# Altium footprint library AMP Footprints.PcbLib: 903 footprints (part 33 of 58)
Each footprint in its own frame and in the unit in brackets; x right, y up, seen from the top. Pads: shape width x height; smd on the part's side, far side on the other; paste and mask are expansions set on the pad; w line width, h text height; cw(c..) or ccw(c..) is an arc to the next point about the centre after c.
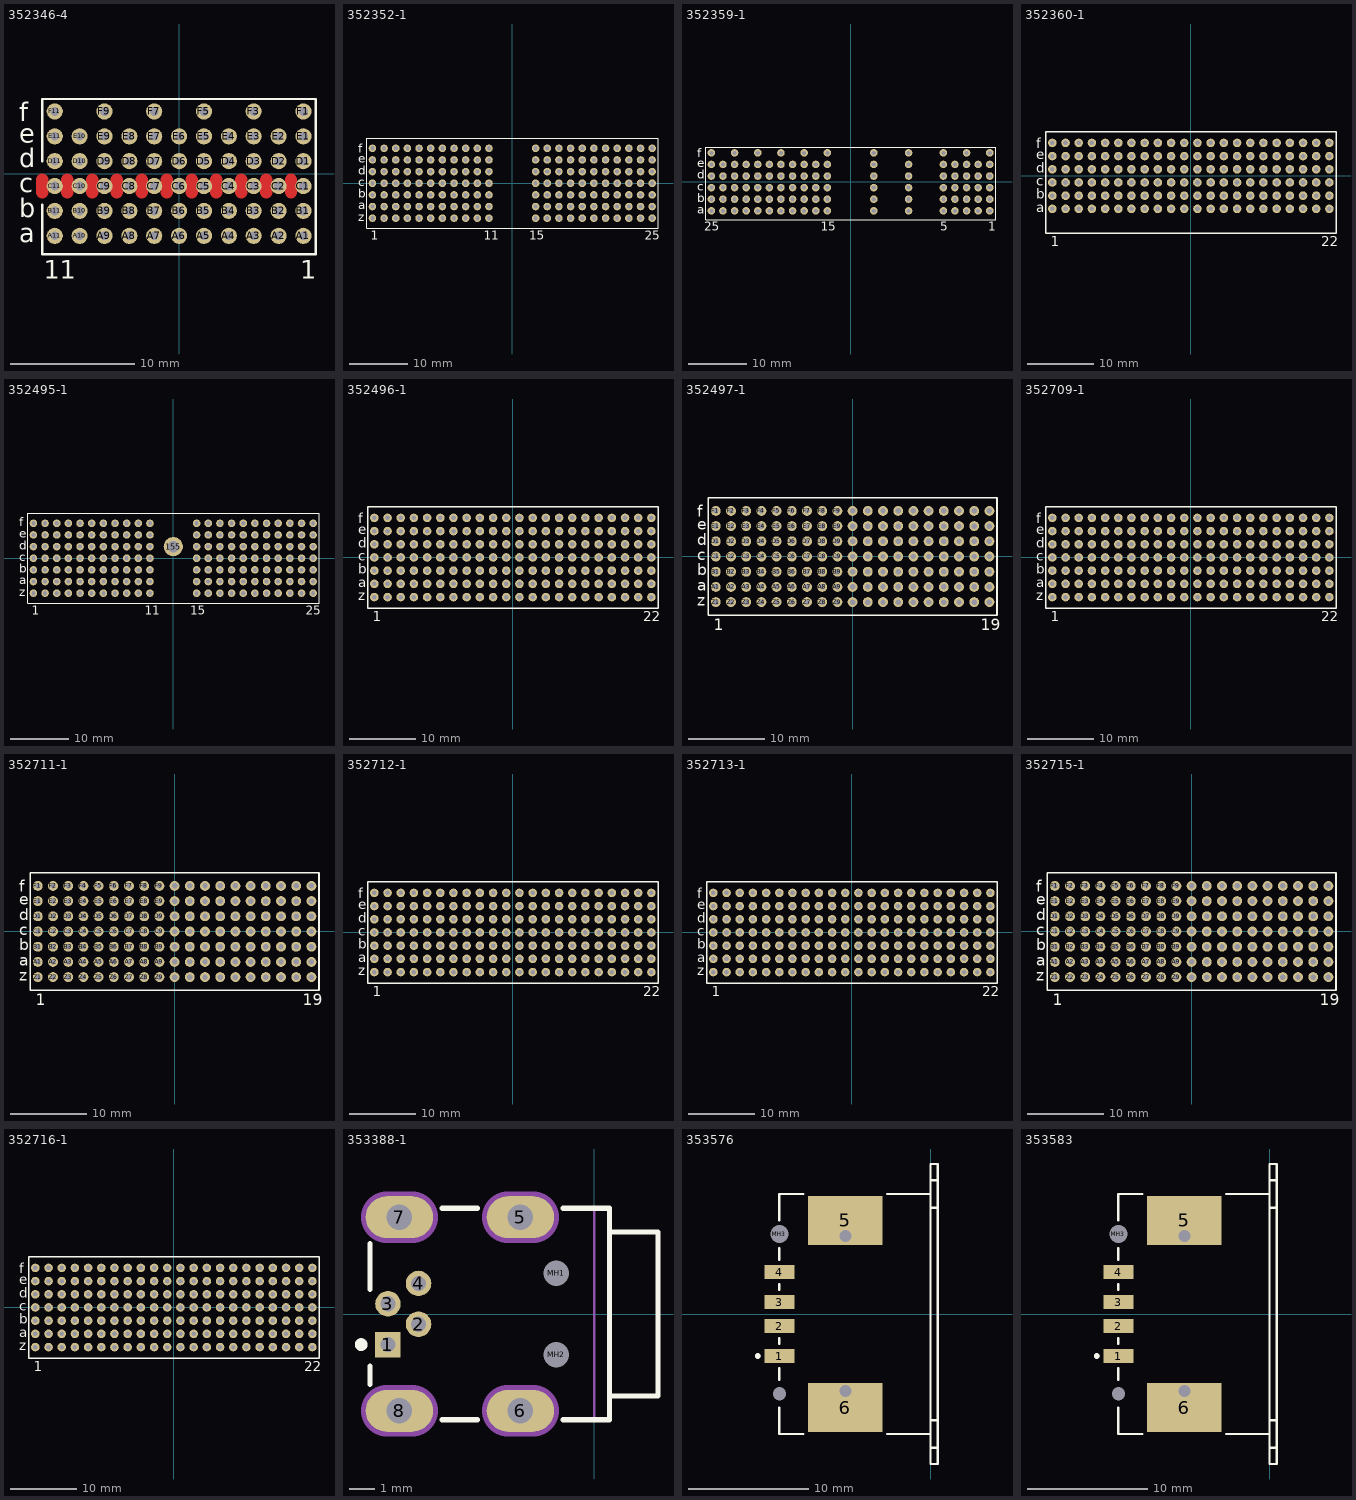
[diagram p32: the footprints below, top view; thin cyan lines are the x and y axes]

## 352346-4 [mm] "Connector; CompactPCI; 55 Position; Right Angle"
height 8.13
pads (61):
  round 1.3 hole 0.7: A1(10,-5) A2(8,-5) A3(6,-5) A4(4,-5) A5(2,-5) A6(0,-5) A7(-2,-5) A8(-4,-5) A9(-6,-5) A10(-8,-5) A11(-10,-5) B1(10,-3) B2(8,-3) B3(6,-3) B4(4,-3) B5(2,-3) B6(0,-3) B7(-2,-3) B8(-4,-3) B9(-6,-3) B10(-8,-3) B11(-10,-3) C1(10,-1) C2(8,-1) C3(6,-1) C4(4,-1) C5(2,-1) C6(0,-1) C7(-2,-1) C8(-4,-1) C9(-6,-1) C10(-8,-1) C11(-10,-1) D1(10,1) D2(8,1) D3(6,1) D4(4,1) D5(2,1) D6(0,1) D7(-2,1) D8(-4,1) D9(-6,1) D10(-8,1) D11(-10,1) E1(10,3) E2(8,3) E3(6,3) E4(4,3) E5(2,3) E6(0,3) E7(-2,3) E8(-4,3) E9(-6,3) E10(-8,3) E11(-10,3) F1(10,5) F3(6,5) F5(2,5) F7(-2,5) F9(-6,5) F11(-10,5)
Top Layer:
  lines w1: -11,-1.5 -11,-0.5 ; -9,-1.5 -9,-0.5 ; -7,-1.5 -7,-0.5 ; -5,-1.5 -5,-0.5 ; -3,-1.5 -3,-0.5 ; -1,-1.5 -1,-0.5 ; 1,-1.5 1,-0.5 ; 3,-1.5 3,-0.5 ; 5,-1.5 5,-0.5 ; 7,-1.5 7,-0.5 ; 9,-1.5 9,-0.5
Top Overlay:
  lines w0.2: -11,-2.5 -11,-6.5 11,-6.5 11,6 -11,6 -11,1
  text "1" at 9.75,-8.475 h1.5
  text "11" at -10.875,-8.475 h1.5
  text "f" at -12.875,4.225 h1.5
  text "e" at -12.875,2.5 h1.5
  text "d" at -12.875,0.5 h1.5
  text "c" at -12.875,-1.5 h1.5
  text "b" at -12.875,-3.5 h1.5
  text "a" at -12.875,-5.5 h1.5

## 352352-1 [mm] "Connector; CompactPCI; 100 Position; Vertical"
height 13.45
pads (154):
  round 1.3 hole 0.7: A1(-24,-4) A2(-22,-4) A3(-20,-4) A4(-18,-4) A5(-16,-4) A6(-14,-4) A7(-12,-4) A8(-10,-4) A9(-8,-4) A10(-6,-4) A11(-4,-4) A15(4,-4) A16(6,-4) A17(8,-4) A18(10,-4) A19(12,-4) A20(14,-4) A21(16,-4) A22(18,-4) A23(20,-4) A24(22,-4) A25(24,-4) B1(-24,-2) B2(-22,-2) B3(-20,-2) B4(-18,-2) B5(-16,-2) B6(-14,-2) B7(-12,-2) B8(-10,-2) B9(-8,-2) B10(-6,-2) B11(-4,-2) B15(4,-2) B16(6,-2) B17(8,-2) B18(10,-2) B19(12,-2) B20(14,-2) B21(16,-2) B22(18,-2) B23(20,-2) B24(22,-2) B25(24,-2) C1(-24,0) C2(-22,0) C3(-20,0) C4(-18,0) C5(-16,0) C6(-14,0) C7(-12,0) C8(-10,0) C9(-8,0) C10(-6,0) C11(-4,0) C15(4,0) C16(6,0) C17(8,0) C18(10,0) C19(12,0) C20(14,0) C21(16,0) C22(18,0) C23(20,0) C24(22,0) C25(24,0) D1(-24,2) D2(-22,2) D3(-20,2) D4(-18,2) D5(-16,2) D6(-14,2) D7(-12,2) D8(-10,2) D9(-8,2) D10(-6,2) D11(-4,2) D15(4,2) D16(6,2) D17(8,2) D18(10,2) D19(12,2) D20(14,2) D21(16,2) D22(18,2) D23(20,2) D24(22,2) D25(24,2) E1(-24,4) E2(-22,4) E3(-20,4) E4(-18,4) E5(-16,4) E6(-14,4) E7(-12,4) E8(-10,4) E9(-8,4) E10(-6,4) E11(-4,4) E15(4,4) E16(6,4) E17(8,4) E18(10,4) E19(12,4) E20(14,4) E21(16,4) E22(18,4) E23(20,4) E24(22,4) E25(24,4) F1(-24,6) F2(-22,6) F3(-20,6) F4(-18,6) F5(-16,6) F6(-14,6) F7(-12,6) F8(-10,6) F9(-8,6) F10(-6,6) F11(-4,6) F15(4,6) F16(6,6) F17(8,6) F18(10,6) F19(12,6) F20(14,6) F21(16,6) F22(18,6) F23(20,6) F24(22,6) F25(24,6) Z1(-24,-6) Z2(-22,-6) Z3(-20,-6) Z4(-18,-6) Z5(-16,-6) Z6(-14,-6) Z7(-12,-6) Z8(-10,-6) Z9(-8,-6) Z10(-6,-6) Z11(-4,-6) Z15(4,-6) Z16(6,-6) Z17(8,-6) Z18(10,-6) Z19(12,-6) Z20(14,-6) Z21(16,-6) Z22(18,-6) Z23(20,-6) Z24(22,-6) Z25(24,-6)
Top Overlay:
  lines w0.2: -25,-7.7 25,-7.7 25,7.7 -25,7.7 -25,-7.7
  text "f" at -26.475,5.225 h1.5
  text "e" at -26.475,3.5 h1.5
  text "d" at -26.475,1.5 h1.5
  text "c" at -26.475,-0.5 h1.5
  text "b" at -26.475,-2.5 h1.5
  text "a" at -26.475,-4.5 h1.5
  text "z" at -26.475,-6.5 h1.5
  text "25" at 22.75,-9.675 h1.5
  text "15" at 2.875,-9.675 h1.5
  text "1" at -24.25,-9.675 h1.5
  text "11" at -4.875,-9.675 h1.5

## 352359-1 [mm] "Connector; CompactPCI; 90 Position; Right Angle"
height 8.13
pads (101):
  round 1.3 hole 0.7: A1(24,-5) A2(22,-5) A3(20,-5) A4(18,-5) A5(16,-5) A8(10,-5) A11(4,-5) A15(-4,-5) A16(-6,-5) A17(-8,-5) A18(-10,-5) A19(-12,-5) A20(-14,-5) A21(-16,-5) A22(-18,-5) A23(-20,-5) A24(-22,-5) A25(-24,-5) B1(24,-3) B2(22,-3) B3(20,-3) B4(18,-3) B5(16,-3) B8(10,-3) B11(4,-3) B15(-4,-3) B16(-6,-3) B17(-8,-3) B18(-10,-3) B19(-12,-3) B20(-14,-3) B21(-16,-3) B22(-18,-3) B23(-20,-3) B24(-22,-3) B25(-24,-3) C1(24,-1) C2(22,-1) C3(20,-1) C4(18,-1) C5(16,-1) C8(10,-1) C11(4,-1) C15(-4,-1) C16(-6,-1) C17(-8,-1) C18(-10,-1) C19(-12,-1) C20(-14,-1) C21(-16,-1) C22(-18,-1) C23(-20,-1) C24(-22,-1) C25(-24,-1) D1(24,1) D2(22,1) D3(20,1) D4(18,1) D5(16,1) D8(10,1) D11(4,1) D15(-4,1) D16(-6,1) D17(-8,1) D18(-10,1) D19(-12,1) D20(-14,1) D21(-16,1) D22(-18,1) D23(-20,1) D24(-22,1) D25(-24,1) E1(24,3) E2(22,3) E3(20,3) E4(18,3) E5(16,3) E8(10,3) E11(4,3) E15(-4,3) E16(-6,3) E17(-8,3) E18(-10,3) E19(-12,3) E20(-14,3) E21(-16,3) E22(-18,3) E23(-20,3) E24(-22,3) E25(-24,3) F1(24,5) F3(20,5) F5(16,5) F8(10,5) F11(4,5) F15(-4,5) F17(-8,5) F19(-12,5) F21(-16,5) F23(-20,5) F25(-24,5)
Top Overlay:
  lines w0.2: -25,-6.5 -25,6 25,6 25,-6.5 -25,-6.5
  text "25" at -25.25,-8.475 h1.5
  text "15" at -5.125,-8.475 h1.5
  text "5" at 15.5,-8.475 h1.5
  text "1" at 23.75,-8.475 h1.5
  text "f" at -26.475,4.225 h1.5
  text "e" at -26.475,2.5 h1.5
  text "d" at -26.475,0.5 h1.5
  text "c" at -26.475,-1.5 h1.5
  text "b" at -26.475,-3.5 h1.5
  text "a" at -26.475,-5.5 h1.5

## 352360-1 [mm] "Connector; CompactPCI; 132 Position; Vertical"
height 13.45
pads (132):
  round 1.3 hole 0.7: A1(-21,-5) A2(-19,-5) A3(-17,-5) A4(-15,-5) A5(-13,-5) A6(-11,-5) A7(-9,-5) A8(-7,-5) A9(-5,-5) A10(-3,-5) A11(-1,-5) A12(1,-5) A13(3,-5) A14(5,-5) A15(7,-5) A16(9,-5) A17(11,-5) A18(13,-5) A19(15,-5) A20(17,-5) A21(19,-5) A22(21,-5) B1(-21,-3) B2(-19,-3) B3(-17,-3) B4(-15,-3) B5(-13,-3) B6(-11,-3) B7(-9,-3) B8(-7,-3) B9(-5,-3) B10(-3,-3) B11(-1,-3) B12(1,-3) B13(3,-3) B14(5,-3) B15(7,-3) B16(9,-3) B17(11,-3) B18(13,-3) B19(15,-3) B20(17,-3) B21(19,-3) B22(21,-3) C1(-21,-1) C2(-19,-1) C3(-17,-1) C4(-15,-1) C5(-13,-1) C6(-11,-1) C7(-9,-1) C8(-7,-1) C9(-5,-1) C10(-3,-1) C11(-1,-1) C12(1,-1) C13(3,-1) C14(5,-1) C15(7,-1) C16(9,-1) C17(11,-1) C18(13,-1) C19(15,-1) C20(17,-1) C21(19,-1) C22(21,-1) D1(-21,1) D2(-19,1) D3(-17,1) D4(-15,1) D5(-13,1) D6(-11,1) D7(-9,1) D8(-7,1) D9(-5,1) D10(-3,1) D11(-1,1) D12(1,1) D13(3,1) D14(5,1) D15(7,1) D16(9,1) D17(11,1) D18(13,1) D19(15,1) D20(17,1) D21(19,1) D22(21,1) E1(-21,3) E2(-19,3) E3(-17,3) E4(-15,3) E5(-13,3) E6(-11,3) E7(-9,3) E8(-7,3) E9(-5,3) E10(-3,3) E11(-1,3) E12(1,3) E13(3,3) E14(5,3) E15(7,3) E16(9,3) E17(11,3) E18(13,3) E19(15,3) E20(17,3) E21(19,3) E22(21,3) F1(-21,5) F2(-19,5) F3(-17,5) F4(-15,5) F5(-13,5) F6(-11,5) F7(-9,5) F8(-7,5) F9(-5,5) F10(-3,5) F11(-1,5) F12(1,5) F13(3,5) F14(5,5) F15(7,5) F16(9,5) F17(11,5) F18(13,5) F19(15,5) F20(17,5) F21(19,5) F22(21,5)
Top Overlay:
  lines w0.2: -22,-8.7 22,-8.7 22,6.7 -22,6.7 -22,-8.7
  text "1" at -21.25,-10.675 h1.5
  text "22" at 19.75,-10.675 h1.5
  text "a" at -23.475,-5.5 h1.5
  text "b" at -23.475,-3.5 h1.5
  text "c" at -23.475,-1.5 h1.5
  text "d" at -23.475,0.5 h1.5
  text "e" at -23.475,2.5 h1.5
  text "f" at -23.475,4.225 h1.5

## 352495-1 [mm] "Connector; CompactPCI; 154 Position; Vertical"
height 13.45
pads (155):
  round 3.3 hole 2: 155(0,2)
  round 1.3 hole 0.7: A1(-24,-4) A2(-22,-4) A3(-20,-4) A4(-18,-4) A5(-16,-4) A6(-14,-4) A7(-12,-4) A8(-10,-4) A9(-8,-4) A10(-6,-4) A11(-4,-4) A15(4,-4) A16(6,-4) A17(8,-4) A18(10,-4) A19(12,-4) A20(14,-4) A21(16,-4) A22(18,-4) A23(20,-4) A24(22,-4) A25(24,-4) B1(-24,-2) B2(-22,-2) B3(-20,-2) B4(-18,-2) B5(-16,-2) B6(-14,-2) B7(-12,-2) B8(-10,-2) B9(-8,-2) B10(-6,-2) B11(-4,-2) B15(4,-2) B16(6,-2) B17(8,-2) B18(10,-2) B19(12,-2) B20(14,-2) B21(16,-2) B22(18,-2) B23(20,-2) B24(22,-2) B25(24,-2) C1(-24,0) C2(-22,0) C3(-20,0) C4(-18,0) C5(-16,0) C6(-14,0) C7(-12,0) C8(-10,0) C9(-8,0) C10(-6,0) C11(-4,0) C15(4,0) C16(6,0) C17(8,0) C18(10,0) C19(12,0) C20(14,0) C21(16,0) C22(18,0) C23(20,0) C24(22,0) C25(24,0) D1(-24,2) D2(-22,2) D3(-20,2) D4(-18,2) D5(-16,2) D6(-14,2) D7(-12,2) D8(-10,2) D9(-8,2) D10(-6,2) D11(-4,2) D15(4,2) D16(6,2) D17(8,2) D18(10,2) D19(12,2) D20(14,2) D21(16,2) D22(18,2) D23(20,2) D24(22,2) D25(24,2) E1(-24,4) E2(-22,4) E3(-20,4) E4(-18,4) E5(-16,4) E6(-14,4) E7(-12,4) E8(-10,4) E9(-8,4) E10(-6,4) E11(-4,4) E15(4,4) E16(6,4) E17(8,4) E18(10,4) E19(12,4) E20(14,4) E21(16,4) E22(18,4) E23(20,4) E24(22,4) E25(24,4) F1(-24,6) F2(-22,6) F3(-20,6) F4(-18,6) F5(-16,6) F6(-14,6) F7(-12,6) F8(-10,6) F9(-8,6) F10(-6,6) F11(-4,6) F15(4,6) F16(6,6) F17(8,6) F18(10,6) F19(12,6) F20(14,6) F21(16,6) F22(18,6) F23(20,6) F24(22,6) F25(24,6) Z1(-24,-6) Z2(-22,-6) Z3(-20,-6) Z4(-18,-6) Z5(-16,-6) Z6(-14,-6) Z7(-12,-6) Z8(-10,-6) Z9(-8,-6) Z10(-6,-6) Z11(-4,-6) Z15(4,-6) Z16(6,-6) Z17(8,-6) Z18(10,-6) Z19(12,-6) Z20(14,-6) Z21(16,-6) Z22(18,-6) Z23(20,-6) Z24(22,-6) Z25(24,-6)
Top Overlay:
  lines w0.2: -25,-7.7 -25,7.7 25,7.7 25,-7.7 -25,-7.7
  text "f" at -26.475,5.475 h1.5
  text "e" at -26.475,3.5 h1.5
  text "d" at -26.475,1.5 h1.5
  text "c" at -26.475,-0.5 h1.5
  text "b" at -26.475,-2.5 h1.5
  text "a" at -26.475,-4.5 h1.5
  text "z" at -26.475,-6.5 h1.5
  text "25" at 22.75,-9.675 h1.5
  text "15" at 2.875,-9.675 h1.5
  text "11" at -4.875,-9.675 h1.5
  text "1" at -24.25,-9.675 h1.5

## 352496-1 [mm] "Connector; CompactPCI; 154 Position; Vertical"
height 13.45
pads (154):
  round 1.3 hole 0.7: A1(-21,-4) A2(-19,-4) A3(-17,-4) A4(-15,-4) A5(-13,-4) A6(-11,-4) A7(-9,-4) A8(-7,-4) A9(-5,-4) A10(-3,-4) A11(-1,-4) A12(1,-4) A13(3,-4) A14(5,-4) A15(7,-4) A16(9,-4) A17(11,-4) A18(13,-4) A19(15,-4) A20(17,-4) A21(19,-4) A22(21,-4) B1(-21,-2) B2(-19,-2) B3(-17,-2) B4(-15,-2) B5(-13,-2) B6(-11,-2) B7(-9,-2) B8(-7,-2) B9(-5,-2) B10(-3,-2) B11(-1,-2) B12(1,-2) B13(3,-2) B14(5,-2) B15(7,-2) B16(9,-2) B17(11,-2) B18(13,-2) B19(15,-2) B20(17,-2) B21(19,-2) B22(21,-2) C1(-21,0) C2(-19,0) C3(-17,0) C4(-15,0) C5(-13,0) C6(-11,0) C7(-9,0) C8(-7,0) C9(-5,0) C10(-3,0) C11(-1,0) C12(1,0) C13(3,0) C14(5,0) C15(7,0) C16(9,0) C17(11,0) C18(13,0) C19(15,0) C20(17,0) C21(19,0) C22(21,0) D1(-21,2) D2(-19,2) D3(-17,2) D4(-15,2) D5(-13,2) D6(-11,2) D7(-9,2) D8(-7,2) D9(-5,2) D10(-3,2) D11(-1,2) D12(1,2) D13(3,2) D14(5,2) D15(7,2) D16(9,2) D17(11,2) D18(13,2) D19(15,2) D20(17,2) D21(19,2) D22(21,2) E1(-21,4) E2(-19,4) E3(-17,4) E4(-15,4) E5(-13,4) E6(-11,4) E7(-9,4) E8(-7,4) E9(-5,4) E10(-3,4) E11(-1,4) E12(1,4) E13(3,4) E14(5,4) E15(7,4) E16(9,4) E17(11,4) E18(13,4) E19(15,4) E20(17,4) E21(19,4) E22(21,4) F1(-21,6) F2(-19,6) F3(-17,6) F4(-15,6) F5(-13,6) F6(-11,6) F7(-9,6) F8(-7,6) F9(-5,6) F10(-3,6) F11(-1,6) F12(1,6) F13(3,6) F14(5,6) F15(7,6) F16(9,6) F17(11,6) F18(13,6) F19(15,6) F20(17,6) F21(19,6) F22(21,6) Z1(-21,-6) Z2(-19,-6) Z3(-17,-6) Z4(-15,-6) Z5(-13,-6) Z6(-11,-6) Z7(-9,-6) Z8(-7,-6) Z9(-5,-6) Z10(-3,-6) Z11(-1,-6) Z12(1,-6) Z13(3,-6) Z14(5,-6) Z15(7,-6) Z16(9,-6) Z17(11,-6) Z18(13,-6) Z19(15,-6) Z20(17,-6) Z21(19,-6) Z22(21,-6)
Top Overlay:
  lines w0.2: -22,-7.7 -22,7.7 22,7.7 22,-7.7 -22,-7.7
  text "f" at -23.475,5.225 h1.5
  text "e" at -23.475,3.5 h1.5
  text "d" at -23.475,1.5 h1.5
  text "c" at -23.475,-0.5 h1.5
  text "b" at -23.475,-2.5 h1.5
  text "a" at -23.475,-4.5 h1.5
  text "z" at -23.475,-6.5 h1.5
  text "22" at 19.75,-9.675 h1.5
  text "1" at -21.25,-9.675 h1.5

## 352497-1 [mm] "Connector; CompactPCI; 133 Position; Vertical"
height 13.45
pads (133):
  round 1.3 hole 0.7: A1(-18,-4) A2(-16,-4) A3(-14,-4) A4(-12,-4) A5(-10,-4) A6(-8,-4) A7(-6,-4) A8(-4,-4) A9(-2,-4) A10(0,-4) A11(2,-4) A12(4,-4) A13(6,-4) A14(8,-4) A15(10,-4) A16(12,-4) A17(14,-4) A18(16,-4) A19(18,-4) B1(-18,-2) B2(-16,-2) B3(-14,-2) B4(-12,-2) B5(-10,-2) B6(-8,-2) B7(-6,-2) B8(-4,-2) B9(-2,-2) B10(0,-2) B11(2,-2) B12(4,-2) B13(6,-2) B14(8,-2) B15(10,-2) B16(12,-2) B17(14,-2) B18(16,-2) B19(18,-2) C1(-18,0) C2(-16,0) C3(-14,0) C4(-12,0) C5(-10,0) C6(-8,0) C7(-6,0) C8(-4,0) C9(-2,0) C10(0,0) C11(2,0) C12(4,0) C13(6,0) C14(8,0) C15(10,0) C16(12,0) C17(14,0) C18(16,0) C19(18,0) D1(-18,2) D2(-16,2) D3(-14,2) D4(-12,2) D5(-10,2) D6(-8,2) D7(-6,2) D8(-4,2) D9(-2,2) D10(0,2) D11(2,2) D12(4,2) D13(6,2) D14(8,2) D15(10,2) D16(12,2) D17(14,2) D18(16,2) D19(18,2) E1(-18,4) E2(-16,4) E3(-14,4) E4(-12,4) E5(-10,4) E6(-8,4) E7(-6,4) E8(-4,4) E9(-2,4) E10(0,4) E11(2,4) E12(4,4) E13(6,4) E14(8,4) E15(10,4) E16(12,4) E17(14,4) E18(16,4) E19(18,4) F1(-18,6) F2(-16,6) F3(-14,6) F4(-12,6) F5(-10,6) F6(-8,6) F7(-6,6) F8(-4,6) F9(-2,6) F10(0,6) F11(2,6) F12(4,6) F13(6,6) F14(8,6) F15(10,6) F16(12,6) F17(14,6) F18(16,6) F19(18,6) Z1(-18,-6) Z2(-16,-6) Z3(-14,-6) Z4(-12,-6) Z5(-10,-6) Z6(-8,-6) Z7(-6,-6) Z8(-4,-6) Z9(-2,-6) Z10(0,-6) Z11(2,-6) Z12(4,-6) Z13(6,-6) Z14(8,-6) Z15(10,-6) Z16(12,-6) Z17(14,-6) Z18(16,-6) Z19(18,-6)
Top Overlay:
  lines w0.2: -19,-7.7 -19,7.7 19,7.7 19,-7.7 -19,-7.7
  text "19" at 16.875,-9.675 h1.5
  text "1" at -18.25,-9.675 h1.5
  text "f" at -20.475,5.225 h1.5
  text "e" at -20.475,3.5 h1.5
  text "d" at -20.475,1.5 h1.5
  text "c" at -20.475,-0.5 h1.5
  text "b" at -20.475,-2.5 h1.5
  text "a" at -20.475,-4.5 h1.5
  text "z" at -20.475,-6.5 h1.5

## 352709-1 [mm] "Connector; CompactPCI; 132 Position; Vertical"
height 13.45
pads (154):
  round 1.3 hole 0.7: A1(-21,-4) A2(-19,-4) A3(-17,-4) A4(-15,-4) A5(-13,-4) A6(-11,-4) A7(-9,-4) A8(-7,-4) A9(-5,-4) A10(-3,-4) A11(-1,-4) A12(1,-4) A13(3,-4) A14(5,-4) A15(7,-4) A16(9,-4) A17(11,-4) A18(13,-4) A19(15,-4) A20(17,-4) A21(19,-4) A22(21,-4) B1(-21,-2) B2(-19,-2) B3(-17,-2) B4(-15,-2) B5(-13,-2) B6(-11,-2) B7(-9,-2) B8(-7,-2) B9(-5,-2) B10(-3,-2) B11(-1,-2) B12(1,-2) B13(3,-2) B14(5,-2) B15(7,-2) B16(9,-2) B17(11,-2) B18(13,-2) B19(15,-2) B20(17,-2) B21(19,-2) B22(21,-2) C1(-21,0) C2(-19,0) C3(-17,0) C4(-15,0) C5(-13,0) C6(-11,0) C7(-9,0) C8(-7,0) C9(-5,0) C10(-3,0) C11(-1,0) C12(1,0) C13(3,0) C14(5,0) C15(7,0) C16(9,0) C17(11,0) C18(13,0) C19(15,0) C20(17,0) C21(19,0) C22(21,0) D1(-21,2) D2(-19,2) D3(-17,2) D4(-15,2) D5(-13,2) D6(-11,2) D7(-9,2) D8(-7,2) D9(-5,2) D10(-3,2) D11(-1,2) D12(1,2) D13(3,2) D14(5,2) D15(7,2) D16(9,2) D17(11,2) D18(13,2) D19(15,2) D20(17,2) D21(19,2) D22(21,2) E1(-21,4) E2(-19,4) E3(-17,4) E4(-15,4) E5(-13,4) E6(-11,4) E7(-9,4) E8(-7,4) E9(-5,4) E10(-3,4) E11(-1,4) E12(1,4) E13(3,4) E14(5,4) E15(7,4) E16(9,4) E17(11,4) E18(13,4) E19(15,4) E20(17,4) E21(19,4) E22(21,4) F1(-21,6) F2(-19,6) F3(-17,6) F4(-15,6) F5(-13,6) F6(-11,6) F7(-9,6) F8(-7,6) F9(-5,6) F10(-3,6) F11(-1,6) F12(1,6) F13(3,6) F14(5,6) F15(7,6) F16(9,6) F17(11,6) F18(13,6) F19(15,6) F20(17,6) F21(19,6) F22(21,6) Z1(-21,-6) Z2(-19,-6) Z3(-17,-6) Z4(-15,-6) Z5(-13,-6) Z6(-11,-6) Z7(-9,-6) Z8(-7,-6) Z9(-5,-6) Z10(-3,-6) Z11(-1,-6) Z12(1,-6) Z13(3,-6) Z14(5,-6) Z15(7,-6) Z16(9,-6) Z17(11,-6) Z18(13,-6) Z19(15,-6) Z20(17,-6) Z21(19,-6) Z22(21,-6)
Top Overlay:
  lines w0.2: -22,-7.7 -22,7.7 22,7.7 22,-7.7 -22,-7.7
  text "f" at -23.475,5.225 h1.5
  text "e" at -23.475,3.5 h1.5
  text "d" at -23.475,1.5 h1.5
  text "c" at -23.475,-0.5 h1.5
  text "b" at -23.475,-2.5 h1.5
  text "a" at -23.475,-4.5 h1.5
  text "z" at -23.475,-6.5 h1.5
  text "22" at 19.75,-9.675 h1.5
  text "1" at -21.25,-9.675 h1.5

## 352711-1 [mm] "Connector; CompactPCI; 133 Position; Vertical"
height 13.45
pads (133):
  round 1.3 hole 0.7: A1(-18,-4) A2(-16,-4) A3(-14,-4) A4(-12,-4) A5(-10,-4) A6(-8,-4) A7(-6,-4) A8(-4,-4) A9(-2,-4) A10(0,-4) A11(2,-4) A12(4,-4) A13(6,-4) A14(8,-4) A15(10,-4) A16(12,-4) A17(14,-4) A18(16,-4) A19(18,-4) B1(-18,-2) B2(-16,-2) B3(-14,-2) B4(-12,-2) B5(-10,-2) B6(-8,-2) B7(-6,-2) B8(-4,-2) B9(-2,-2) B10(0,-2) B11(2,-2) B12(4,-2) B13(6,-2) B14(8,-2) B15(10,-2) B16(12,-2) B17(14,-2) B18(16,-2) B19(18,-2) C1(-18,0) C2(-16,0) C3(-14,0) C4(-12,0) C5(-10,0) C6(-8,0) C7(-6,0) C8(-4,0) C9(-2,0) C10(0,0) C11(2,0) C12(4,0) C13(6,0) C14(8,0) C15(10,0) C16(12,0) C17(14,0) C18(16,0) C19(18,0) D1(-18,2) D2(-16,2) D3(-14,2) D4(-12,2) D5(-10,2) D6(-8,2) D7(-6,2) D8(-4,2) D9(-2,2) D10(0,2) D11(2,2) D12(4,2) D13(6,2) D14(8,2) D15(10,2) D16(12,2) D17(14,2) D18(16,2) D19(18,2) E1(-18,4) E2(-16,4) E3(-14,4) E4(-12,4) E5(-10,4) E6(-8,4) E7(-6,4) E8(-4,4) E9(-2,4) E10(0,4) E11(2,4) E12(4,4) E13(6,4) E14(8,4) E15(10,4) E16(12,4) E17(14,4) E18(16,4) E19(18,4) F1(-18,6) F2(-16,6) F3(-14,6) F4(-12,6) F5(-10,6) F6(-8,6) F7(-6,6) F8(-4,6) F9(-2,6) F10(0,6) F11(2,6) F12(4,6) F13(6,6) F14(8,6) F15(10,6) F16(12,6) F17(14,6) F18(16,6) F19(18,6) Z1(-18,-6) Z2(-16,-6) Z3(-14,-6) Z4(-12,-6) Z5(-10,-6) Z6(-8,-6) Z7(-6,-6) Z8(-4,-6) Z9(-2,-6) Z10(0,-6) Z11(2,-6) Z12(4,-6) Z13(6,-6) Z14(8,-6) Z15(10,-6) Z16(12,-6) Z17(14,-6) Z18(16,-6) Z19(18,-6)
Top Overlay:
  lines w0.2: -19,-7.7 -19,7.7 19,7.7 19,-7.7 -19,-7.7
  text "19" at 16.875,-9.675 h1.5
  text "1" at -18.25,-9.675 h1.5
  text "f" at -20.475,5.225 h1.5
  text "e" at -20.475,3.5 h1.5
  text "d" at -20.475,1.5 h1.5
  text "c" at -20.475,-0.5 h1.5
  text "b" at -20.475,-2.5 h1.5
  text "a" at -20.475,-4.5 h1.5
  text "z" at -20.475,-6.5 h1.5

## 352712-1 [mm] "Connector; CompactPCI; 154 Position; Vertical"
height 13.45
pads (154):
  round 1.3 hole 0.7: A1(-21,-4) A2(-19,-4) A3(-17,-4) A4(-15,-4) A5(-13,-4) A6(-11,-4) A7(-9,-4) A8(-7,-4) A9(-5,-4) A10(-3,-4) A11(-1,-4) A12(1,-4) A13(3,-4) A14(5,-4) A15(7,-4) A16(9,-4) A17(11,-4) A18(13,-4) A19(15,-4) A20(17,-4) A21(19,-4) A22(21,-4) B1(-21,-2) B2(-19,-2) B3(-17,-2) B4(-15,-2) B5(-13,-2) B6(-11,-2) B7(-9,-2) B8(-7,-2) B9(-5,-2) B10(-3,-2) B11(-1,-2) B12(1,-2) B13(3,-2) B14(5,-2) B15(7,-2) B16(9,-2) B17(11,-2) B18(13,-2) B19(15,-2) B20(17,-2) B21(19,-2) B22(21,-2) C1(-21,0) C2(-19,0) C3(-17,0) C4(-15,0) C5(-13,0) C6(-11,0) C7(-9,0) C8(-7,0) C9(-5,0) C10(-3,0) C11(-1,0) C12(1,0) C13(3,0) C14(5,0) C15(7,0) C16(9,0) C17(11,0) C18(13,0) C19(15,0) C20(17,0) C21(19,0) C22(21,0) D1(-21,2) D2(-19,2) D3(-17,2) D4(-15,2) D5(-13,2) D6(-11,2) D7(-9,2) D8(-7,2) D9(-5,2) D10(-3,2) D11(-1,2) D12(1,2) D13(3,2) D14(5,2) D15(7,2) D16(9,2) D17(11,2) D18(13,2) D19(15,2) D20(17,2) D21(19,2) D22(21,2) E1(-21,4) E2(-19,4) E3(-17,4) E4(-15,4) E5(-13,4) E6(-11,4) E7(-9,4) E8(-7,4) E9(-5,4) E10(-3,4) E11(-1,4) E12(1,4) E13(3,4) E14(5,4) E15(7,4) E16(9,4) E17(11,4) E18(13,4) E19(15,4) E20(17,4) E21(19,4) E22(21,4) F1(-21,6) F2(-19,6) F3(-17,6) F4(-15,6) F5(-13,6) F6(-11,6) F7(-9,6) F8(-7,6) F9(-5,6) F10(-3,6) F11(-1,6) F12(1,6) F13(3,6) F14(5,6) F15(7,6) F16(9,6) F17(11,6) F18(13,6) F19(15,6) F20(17,6) F21(19,6) F22(21,6) Z1(-21,-6) Z2(-19,-6) Z3(-17,-6) Z4(-15,-6) Z5(-13,-6) Z6(-11,-6) Z7(-9,-6) Z8(-7,-6) Z9(-5,-6) Z10(-3,-6) Z11(-1,-6) Z12(1,-6) Z13(3,-6) Z14(5,-6) Z15(7,-6) Z16(9,-6) Z17(11,-6) Z18(13,-6) Z19(15,-6) Z20(17,-6) Z21(19,-6) Z22(21,-6)
Top Overlay:
  lines w0.2: -22,-7.7 -22,7.7 22,7.7 22,-7.7 -22,-7.7
  text "f" at -23.475,5.225 h1.5
  text "e" at -23.475,3.5 h1.5
  text "d" at -23.475,1.5 h1.5
  text "c" at -23.475,-0.5 h1.5
  text "b" at -23.475,-2.5 h1.5
  text "a" at -23.475,-4.5 h1.5
  text "z" at -23.475,-6.5 h1.5
  text "22" at 19.75,-9.675 h1.5
  text "1" at -21.25,-9.675 h1.5

## 352713-1 [mm] "Connector; CompactPCI; 132 Position; Vertical"
height 13.45
pads (154):
  round 1.3 hole 0.7: A1(-21,-4) A2(-19,-4) A3(-17,-4) A4(-15,-4) A5(-13,-4) A6(-11,-4) A7(-9,-4) A8(-7,-4) A9(-5,-4) A10(-3,-4) A11(-1,-4) A12(1,-4) A13(3,-4) A14(5,-4) A15(7,-4) A16(9,-4) A17(11,-4) A18(13,-4) A19(15,-4) A20(17,-4) A21(19,-4) A22(21,-4) B1(-21,-2) B2(-19,-2) B3(-17,-2) B4(-15,-2) B5(-13,-2) B6(-11,-2) B7(-9,-2) B8(-7,-2) B9(-5,-2) B10(-3,-2) B11(-1,-2) B12(1,-2) B13(3,-2) B14(5,-2) B15(7,-2) B16(9,-2) B17(11,-2) B18(13,-2) B19(15,-2) B20(17,-2) B21(19,-2) B22(21,-2) C1(-21,0) C2(-19,0) C3(-17,0) C4(-15,0) C5(-13,0) C6(-11,0) C7(-9,0) C8(-7,0) C9(-5,0) C10(-3,0) C11(-1,0) C12(1,0) C13(3,0) C14(5,0) C15(7,0) C16(9,0) C17(11,0) C18(13,0) C19(15,0) C20(17,0) C21(19,0) C22(21,0) D1(-21,2) D2(-19,2) D3(-17,2) D4(-15,2) D5(-13,2) D6(-11,2) D7(-9,2) D8(-7,2) D9(-5,2) D10(-3,2) D11(-1,2) D12(1,2) D13(3,2) D14(5,2) D15(7,2) D16(9,2) D17(11,2) D18(13,2) D19(15,2) D20(17,2) D21(19,2) D22(21,2) E1(-21,4) E2(-19,4) E3(-17,4) E4(-15,4) E5(-13,4) E6(-11,4) E7(-9,4) E8(-7,4) E9(-5,4) E10(-3,4) E11(-1,4) E12(1,4) E13(3,4) E14(5,4) E15(7,4) E16(9,4) E17(11,4) E18(13,4) E19(15,4) E20(17,4) E21(19,4) E22(21,4) F1(-21,6) F2(-19,6) F3(-17,6) F4(-15,6) F5(-13,6) F6(-11,6) F7(-9,6) F8(-7,6) F9(-5,6) F10(-3,6) F11(-1,6) F12(1,6) F13(3,6) F14(5,6) F15(7,6) F16(9,6) F17(11,6) F18(13,6) F19(15,6) F20(17,6) F21(19,6) F22(21,6) Z1(-21,-6) Z2(-19,-6) Z3(-17,-6) Z4(-15,-6) Z5(-13,-6) Z6(-11,-6) Z7(-9,-6) Z8(-7,-6) Z9(-5,-6) Z10(-3,-6) Z11(-1,-6) Z12(1,-6) Z13(3,-6) Z14(5,-6) Z15(7,-6) Z16(9,-6) Z17(11,-6) Z18(13,-6) Z19(15,-6) Z20(17,-6) Z21(19,-6) Z22(21,-6)
Top Overlay:
  lines w0.2: -22,-7.7 -22,7.7 22,7.7 22,-7.7 -22,-7.7
  text "f" at -23.475,5.225 h1.5
  text "e" at -23.475,3.5 h1.5
  text "d" at -23.475,1.5 h1.5
  text "c" at -23.475,-0.5 h1.5
  text "b" at -23.475,-2.5 h1.5
  text "a" at -23.475,-4.5 h1.5
  text "z" at -23.475,-6.5 h1.5
  text "22" at 19.75,-9.675 h1.5
  text "1" at -21.25,-9.675 h1.5

## 352715-1 [mm] "Connector; CompactPCI; 133 Position; Vertical"
height 13.45
pads (133):
  round 1.3 hole 0.7: A1(-18,-4) A2(-16,-4) A3(-14,-4) A4(-12,-4) A5(-10,-4) A6(-8,-4) A7(-6,-4) A8(-4,-4) A9(-2,-4) A10(0,-4) A11(2,-4) A12(4,-4) A13(6,-4) A14(8,-4) A15(10,-4) A16(12,-4) A17(14,-4) A18(16,-4) A19(18,-4) B1(-18,-2) B2(-16,-2) B3(-14,-2) B4(-12,-2) B5(-10,-2) B6(-8,-2) B7(-6,-2) B8(-4,-2) B9(-2,-2) B10(0,-2) B11(2,-2) B12(4,-2) B13(6,-2) B14(8,-2) B15(10,-2) B16(12,-2) B17(14,-2) B18(16,-2) B19(18,-2) C1(-18,0) C2(-16,0) C3(-14,0) C4(-12,0) C5(-10,0) C6(-8,0) C7(-6,0) C8(-4,0) C9(-2,0) C10(0,0) C11(2,0) C12(4,0) C13(6,0) C14(8,0) C15(10,0) C16(12,0) C17(14,0) C18(16,0) C19(18,0) D1(-18,2) D2(-16,2) D3(-14,2) D4(-12,2) D5(-10,2) D6(-8,2) D7(-6,2) D8(-4,2) D9(-2,2) D10(0,2) D11(2,2) D12(4,2) D13(6,2) D14(8,2) D15(10,2) D16(12,2) D17(14,2) D18(16,2) D19(18,2) E1(-18,4) E2(-16,4) E3(-14,4) E4(-12,4) E5(-10,4) E6(-8,4) E7(-6,4) E8(-4,4) E9(-2,4) E10(0,4) E11(2,4) E12(4,4) E13(6,4) E14(8,4) E15(10,4) E16(12,4) E17(14,4) E18(16,4) E19(18,4) F1(-18,6) F2(-16,6) F3(-14,6) F4(-12,6) F5(-10,6) F6(-8,6) F7(-6,6) F8(-4,6) F9(-2,6) F10(0,6) F11(2,6) F12(4,6) F13(6,6) F14(8,6) F15(10,6) F16(12,6) F17(14,6) F18(16,6) F19(18,6) Z1(-18,-6) Z2(-16,-6) Z3(-14,-6) Z4(-12,-6) Z5(-10,-6) Z6(-8,-6) Z7(-6,-6) Z8(-4,-6) Z9(-2,-6) Z10(0,-6) Z11(2,-6) Z12(4,-6) Z13(6,-6) Z14(8,-6) Z15(10,-6) Z16(12,-6) Z17(14,-6) Z18(16,-6) Z19(18,-6)
Top Overlay:
  lines w0.2: -19,-7.7 -19,7.7 19,7.7 19,-7.7 -19,-7.7
  text "19" at 16.875,-9.675 h1.5
  text "1" at -18.25,-9.675 h1.5
  text "f" at -20.475,5.225 h1.5
  text "e" at -20.475,3.5 h1.5
  text "d" at -20.475,1.5 h1.5
  text "c" at -20.475,-0.5 h1.5
  text "b" at -20.475,-2.5 h1.5
  text "a" at -20.475,-4.5 h1.5
  text "z" at -20.475,-6.5 h1.5

## 352716-1 [mm] "Connector; CompactPCI; 154 Position; Vertical"
height 13.45
pads (154):
  round 1.3 hole 0.7: A1(-21,-4) A2(-19,-4) A3(-17,-4) A4(-15,-4) A5(-13,-4) A6(-11,-4) A7(-9,-4) A8(-7,-4) A9(-5,-4) A10(-3,-4) A11(-1,-4) A12(1,-4) A13(3,-4) A14(5,-4) A15(7,-4) A16(9,-4) A17(11,-4) A18(13,-4) A19(15,-4) A20(17,-4) A21(19,-4) A22(21,-4) B1(-21,-2) B2(-19,-2) B3(-17,-2) B4(-15,-2) B5(-13,-2) B6(-11,-2) B7(-9,-2) B8(-7,-2) B9(-5,-2) B10(-3,-2) B11(-1,-2) B12(1,-2) B13(3,-2) B14(5,-2) B15(7,-2) B16(9,-2) B17(11,-2) B18(13,-2) B19(15,-2) B20(17,-2) B21(19,-2) B22(21,-2) C1(-21,0) C2(-19,0) C3(-17,0) C4(-15,0) C5(-13,0) C6(-11,0) C7(-9,0) C8(-7,0) C9(-5,0) C10(-3,0) C11(-1,0) C12(1,0) C13(3,0) C14(5,0) C15(7,0) C16(9,0) C17(11,0) C18(13,0) C19(15,0) C20(17,0) C21(19,0) C22(21,0) D1(-21,2) D2(-19,2) D3(-17,2) D4(-15,2) D5(-13,2) D6(-11,2) D7(-9,2) D8(-7,2) D9(-5,2) D10(-3,2) D11(-1,2) D12(1,2) D13(3,2) D14(5,2) D15(7,2) D16(9,2) D17(11,2) D18(13,2) D19(15,2) D20(17,2) D21(19,2) D22(21,2) E1(-21,4) E2(-19,4) E3(-17,4) E4(-15,4) E5(-13,4) E6(-11,4) E7(-9,4) E8(-7,4) E9(-5,4) E10(-3,4) E11(-1,4) E12(1,4) E13(3,4) E14(5,4) E15(7,4) E16(9,4) E17(11,4) E18(13,4) E19(15,4) E20(17,4) E21(19,4) E22(21,4) F1(-21,6) F2(-19,6) F3(-17,6) F4(-15,6) F5(-13,6) F6(-11,6) F7(-9,6) F8(-7,6) F9(-5,6) F10(-3,6) F11(-1,6) F12(1,6) F13(3,6) F14(5,6) F15(7,6) F16(9,6) F17(11,6) F18(13,6) F19(15,6) F20(17,6) F21(19,6) F22(21,6) Z1(-21,-6) Z2(-19,-6) Z3(-17,-6) Z4(-15,-6) Z5(-13,-6) Z6(-11,-6) Z7(-9,-6) Z8(-7,-6) Z9(-5,-6) Z10(-3,-6) Z11(-1,-6) Z12(1,-6) Z13(3,-6) Z14(5,-6) Z15(7,-6) Z16(9,-6) Z17(11,-6) Z18(13,-6) Z19(15,-6) Z20(17,-6) Z21(19,-6) Z22(21,-6)
Top Overlay:
  lines w0.2: -22,-7.7 -22,7.7 22,7.7 22,-7.7 -22,-7.7
  text "f" at -23.475,5.225 h1.5
  text "e" at -23.475,3.5 h1.5
  text "d" at -23.475,1.5 h1.5
  text "c" at -23.475,-0.5 h1.5
  text "b" at -23.475,-2.5 h1.5
  text "a" at -23.475,-4.5 h1.5
  text "z" at -23.475,-6.5 h1.5
  text "22" at 19.75,-9.675 h1.5
  text "1" at -21.25,-9.675 h1.5

## 353388-1 [mm] "Connector; IEEE1394, Thru-Hole; 4 Position; Vertical"
height 9.7
pads (10):
  rect 1x1 hole 0.6: 1(-8.1,-1.199)
  round 1 hole 0.6: 2(-6.9,-0.399) 3(-8.1,0.401) 4(-6.9,1.201)
  oval 2.65x1.65 hole 1: 5(-2.9,3.801) 6(-2.9,-3.799) 7(-7.65,3.801) 8(-7.65,-3.799)
  round 0.7 hole 1 unplated: MH1(-1.5,1.601) MH2(-1.5,-1.599)
Top Overlay:
  circle w0.25: c-9.151,-1.199 r0.125
  lines w0.2: -8.8,-2.759 -8.8,-2.049 ; -8.8,0.971 -8.8,2.761 ; -5.97,-4.149 -4.58,-4.149 ; -5.97,4.151 -4.58,4.151 ; -1.23,-4.149 0.6,-4.149 0.6,4.151 -1.23,4.151 ; 0.6,-3.224 2.5,-3.224 2.5,3.226 0.6,3.226
Mechanical 1:
  lines w0.1: 0,-4.149 0,4.151
  lines w1: -8.15,-3.799 -7.15,-3.799 ; -8.15,3.801 -7.15,3.801 ; -3.4,-3.799 -2.4,-3.799 ; -3.4,3.801 -2.4,3.801
  text "PCB Edge" at 0.37,-3.705 h0.25
  text "Mech 2 - Clearance, move to internal plane if present" at -9.5,5.071 h0.3
  text "Mech 1 - Slot cut-out" at -9.5,5.571 h0.3
  text "Assign keep-out area to slot" at -9.5,7.071 h0.3
  text "Slot 1x2mm, PTH" at -9.5,6.071 h0.3
  text "Alert PCB fab to slot details" at -9.5,6.571 h0.3
Mechanical 2:
  lines w2.016: -8.15,-3.799 -7.15,-3.799 ; -8.15,3.801 -7.15,3.801 ; -3.4,-3.799 -2.4,-3.799 ; -3.4,3.801 -2.4,3.801

## 353576 [mm] "Connector; USB1.1, Type A, SM; 4 Position; Right Angle"
height 7.8
pads (10):
  rect 2.5x1.2 smd: 1(-12.6,-3.5) 2(-12.6,-1) 3(-12.6,1) 4(-12.6,3.5)
  rect 6.2x4.1 smd: 5(-7.1,7.8) 6(-7.1,-7.8)
  round 0.7 hole 1 unplated: MH1(-7.1,6.496) MH2(-7.1,-6.404)
  round 1.2 hole 1.5 unplated: MH3(-12.6,6.65)
  round 0.8 hole 1.1 unplated: MH4(-12.6,-6.65)
Top Overlay:
  circle w0.25: c-14.4,-3.5 r0.125
  lines w0.2: -12.6,-7.8 -12.6,-10 -10.6,-10 ; -12.6,-5.5 -12.6,-4.5 ; -12.6,-2.5 -12.6,-2 ; -12.6,2 -12.6,2.5 ; -12.6,4.5 -12.6,5.5 ; -12.6,7.8 -12.6,10 -10.6,10 ; -3.6,-10 0,-10 ; -3.6,10 0,10 ; 0,-11.15 0.576,-11.15 ; 0,-8.85 0.6,-8.85 ; 0,8.85 0.588,8.85 ; 0,11.15 0.588,11.15 ; 0,-12.5 0.6,-12.5 0.6,12.5 0,12.5 0,-12.5

## 353583 [mm] "Connector; USB1.1, Type A, SM; 4 Position; Right Angle"
height 7.8
pads (10):
  rect 2.5x1.2 smd: 1(-12.6,-3.5) 2(-12.6,-1) 3(-12.6,1) 4(-12.6,3.5)
  rect 6.2x4.1 smd: 5(-7.1,7.8) 6(-7.1,-7.8)
  round 0.7 hole 1 unplated: MH1(-7.1,6.496) MH2(-7.1,-6.404)
  round 1.2 hole 1.5 unplated: MH3(-12.6,6.65)
  round 0.8 hole 1.1 unplated: MH4(-12.6,-6.65)
Top Overlay:
  circle w0.25: c-14.4,-3.5 r0.125
  lines w0.2: -12.6,-7.8 -12.6,-10 -10.6,-10 ; -12.6,-5.5 -12.6,-4.5 ; -12.6,-2.5 -12.6,-2 ; -12.6,2 -12.6,2.5 ; -12.6,4.5 -12.6,5.5 ; -12.6,7.8 -12.6,10 -10.6,10 ; -3.6,-10 0,-10 ; -3.6,10 0,10 ; 0,-11.15 0.576,-11.15 ; 0,-8.85 0.6,-8.85 ; 0,8.85 0.588,8.85 ; 0,11.15 0.588,11.15 ; 0,-12.5 0.6,-12.5 0.6,12.5 0,12.5 0,-12.5